# EAGLE library part MAX5584 (library rfops)
MAX5584 Quad DAC
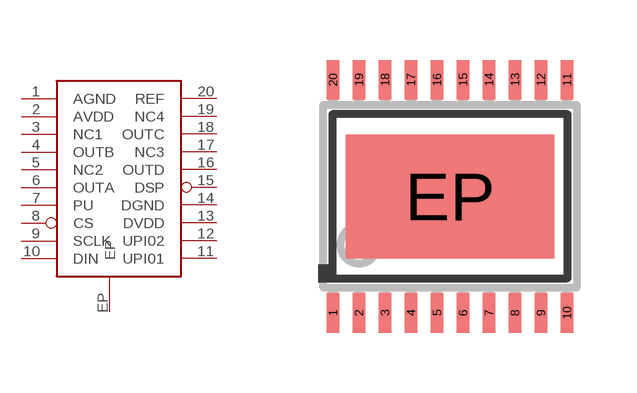
[diagram p4: symbol with the pads of TSSOP20; footprint TSSOP20]

Designator prefix DAC

## MAX5584  [TSSOP20]
1  AGND  pwr
2  AVDD  pwr
3  NC1  nc
4  OUTB  out
5  NC2  nc
6  OUTA  out
7  PU  in
8  CS  in
9  SCLK  in
10  DIN  in
11  UPI01
12  UPI02
13  DVDD  pwr
14  DGND  pwr
15  DSP  in
16  OUTD  out
17  NC3  nc
18  OUTC  out
19  NC4  nc
20  REF  in
EP  EP  pwr

## Footprint TSSOP20 (pad centres in mm)
Thin Shrink Small Outline Plastic 20 MAX3223-MAX3243.pdf
smd 0.305 x 0.991: 1 -2.925,-2.918; 2 -2.275,-2.918; 3 -1.625,-2.918; 4 -0.975,-2.918; 5 -0.325,-2.918; 6 0.325,-2.918; 7 0.975,-2.918; 8 1.625,-2.918; 9 2.275,-2.918; 10 2.925,-2.918; 11 2.925,2.918; 12 2.275,2.918; 13 1.625,2.918; 14 0.975,2.918; 15 0.325,2.918; 16 -0.325,2.918; 17 -0.975,2.918; 18 -1.625,2.918; 19 -2.275,2.918; 20 -2.925,2.918
smd 5.2 x 3.1: EP 0,0